# Altium schematic symbol library MOSFET-2GP.Schlib: 1 symbol
Pins are listed as number, name and electrical type; pins without a type are passive.

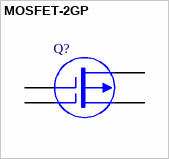
[diagram p0: symbol MOSFET-2GP]

## MOSFET-2GP
designator Q?
Two-Gate, P-Channel MOSFET
pins: 1 G1, 2 G2, 3 D, 4 S